# Altium schematic symbol library Test Point.SchLib: 1 symbol
Pins are listed as number, name and electrical type; pins without a type are passive.

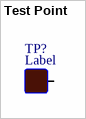
[diagram p0: symbol Test Point]

## Test Point
designator TP?  (value not drawn)  (mechanical)
Test Point; Component Category: Mechanical; Component Type: Test Point; Label: Label
footprint Test Point - SMD, Circular, Diameter-1mm
pins: TP